# Altium schematic symbol library DIODE_2_ANODE.SchLib: 1 symbol
Pins are listed as number, name and electrical type; pins without a type are passive.

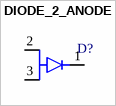
[diagram p0: symbol DIODE_2_ANODE]

## DIODE_2_ANODE
designator D?
=Description
pins: 1, 2, 3